# Altium footprint library ES_Pcb_x.PcbLib: 354 footprints (part 22 of 23)
Each footprint in its own frame and in the unit in brackets; x right, y up, seen from the top. Pads: shape width x height; smd on the part's side, far side on the other; paste and mask are expansions set on the pad; w line width, h text height; cw(c..) or ccw(c..) is an arc to the next point about the centre after c.
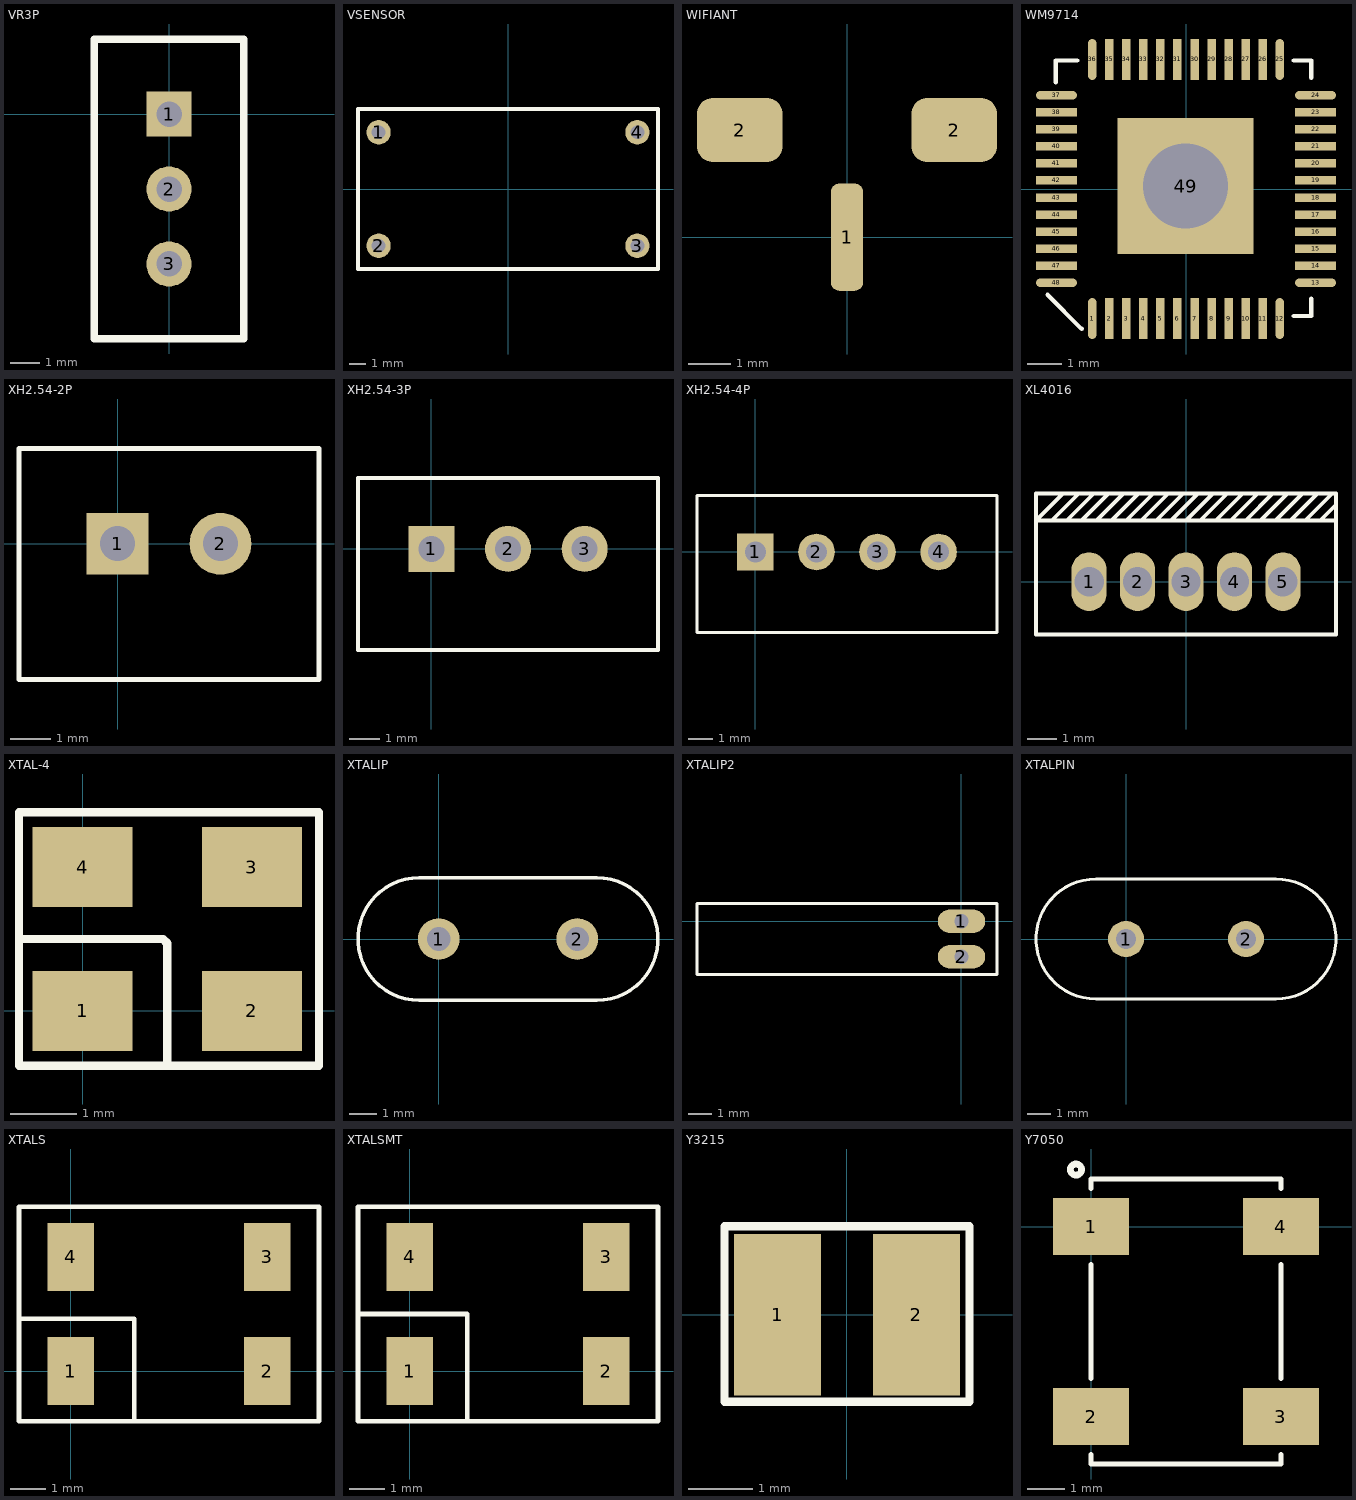
[diagram p21: the footprints below, top view; thin cyan lines are the x and y axes]

## VR3P [mil]
pads (3):
  rect 60x60 hole 34: 1(0,0)
  round 60 hole 34: 2(0,-100) 3(0,-200)
Top Overlay:
  lines w10: -100,-300 100,-300 100,100 -100,100 -100,-300

## VSENSOR [mil]
pads (4):
  round 60 hole 34: 1(-319.29,139.96) 2(-319.29,-139.96) 3(319.29,-139.96) 4(319.29,139.96)
Top Overlay:
  lines w10: -370.08,-196.85 370.08,-196.85 370.08,196.85 -370.08,196.85 -370.08,-196.85

## WIFIANT [mil]
pads (3):
  rrect50% 30x100 smd: 1(0,0)
  rrect50% 80x60 smd: 2(-100,100) 2(100,100)

## WM9714 [mm]
pads (49):
  oval 0.25x1.2 smd: 1(-2.75,-3.8) 12(2.75,-3.8) 25(2.75,3.8) 36(-2.75,3.8)
  rect 0.25x1.2 smd: 2(-2.25,-3.8) 3(-1.75,-3.8) 4(-1.25,-3.8) 5(-0.75,-3.8) 6(-0.25,-3.8) 7(0.25,-3.8) 8(0.75,-3.8) 9(1.25,-3.8) 10(1.75,-3.8) 11(2.25,-3.8) 26(2.25,3.8) 27(1.75,3.8) 28(1.25,3.8) 29(0.75,3.8) 30(0.25,3.8) 31(-0.25,3.8) 32(-0.75,3.8) 33(-1.25,3.8) 34(-1.75,3.8) 35(-2.25,3.8)
  oval 1.2x0.25 smd: 13(3.8,-2.75) 24(3.8,2.75) 37(-3.8,2.75) 48(-3.8,-2.75)
  rect 1.2x0.25 smd: 14(3.8,-2.25) 15(3.8,-1.75) 16(3.8,-1.25) 17(3.8,-0.75) 18(3.8,-0.25) 19(3.8,0.25) 20(3.8,0.75) 21(3.8,1.25) 22(3.8,1.75) 23(3.8,2.25) 38(-3.8,2.25) 39(-3.8,1.75) 40(-3.8,1.25) 41(-3.8,0.75) 42(-3.8,0.25) 43(-3.8,-0.25) 44(-3.8,-0.75) 45(-3.8,-1.25) 46(-3.8,-1.75) 47(-3.8,-2.25)
  rect 4x4 hole 2.5: 49(-0.013,0.087)
Top Overlay:
  lines w0.127: -4.061,-3.104 -3.061,-4.104 ; -3.823,3.135 -3.823,3.77 -3.188,3.77 ; 3.162,-3.723 3.67,-3.723 3.67,-3.215 ; 3.162,3.77 3.67,3.77 3.67,3.262

## XH2.54-2P [mil]
pads (2):
  rect 60x60 hole 34: 1(0,0)
  round 60 hole 34: 2(100,0)
Top Overlay:
  lines w5: -95.67,-131.89 -95.67,92.52 195.67,92.52 195.67,-131.89 -95.67,-131.89

## XH2.54-3P [mil]
pads (3):
  rect 60x60 hole 34: 1(0,0)
  round 60 hole 34: 2(100,0) 3(200,0)
Top Overlay:
  lines w5: -95.67,-131.89 295.67,-131.89 295.67,92.52 -95.67,92.52 -95.67,-131.89

## XH2.54-4P [mil]
pads (4):
  rect 60x60 hole 34: 1(0,0)
  round 60 hole 34: 2(100,0) 3(200,0) 4(300,0)
Top Overlay:
  lines w5: -95.67,-131.89 395.67,-131.89 395.67,92.52 -95.67,92.52 -95.67,-131.89

## XL4016 [mm]
pads (5):
  oval 1.2x2 hole 1: 1(-3.3,0) 2(-1.65,0) 3(0,0) 4(1.65,0) 5(3.3,0)
Top Overlay:
  lines w0.127: -4.572,2.083 -3.653,2.997 ; -4.191,2.997 -5.11,2.083 5.11,2.083 ; -4.064,2.083 -3.145,2.997 ; -3.556,2.083 -2.637,2.997 ; -3.048,2.083 -2.129,2.997 ; -2.54,2.083 -1.621,2.997 ; -2.032,2.083 -1.113,2.997 ; -1.524,2.083 -0.605,2.997 ; -1.016,2.083 -0.097,2.997 ; -0.508,2.083 0.411,2.997 ; 0,2.083 0.919,2.997 ; 0.483,2.083 1.402,2.997 ; 1.016,2.083 1.935,2.997 ; 1.524,2.083 2.443,2.997 ; 2.032,2.083 2.951,2.997 ; 2.54,2.083 3.459,2.997 ; 3.048,2.083 3.967,2.997 ; 3.556,2.083 4.475,2.997 ; 4.064,2.083 4.983,2.997 ; 4.572,2.083 5.109,2.617 ; -5.11,-1.8 5.11,-1.8 5.11,3 -5.11,3 -5.11,-1.8

## XTAL-4 [mm]
pads (4):
  rect 1.5x1.2 smd: 1(0,0) 2(2.54,0) 3(2.54,2.159) 4(0,2.159)
Top Overlay:
  lines w0.127: -0.954,1.079 1.207,1.079 1.27,1.016 1.27,-0.762 ; -0.954,-0.821 -0.954,2.979 3.546,2.979 3.546,-0.821 -0.954,-0.821

## XTALIP [mil]
pads (2):
  round 60 hole 34: 1(0,0) 2(200,0)
Top Overlay:
  lines w5: -27.95,-88.58 cw(c-27.95,0) -27.95,88.58 227.95,88.58 cw(c227.95,0) 227.95,-88.58 -27.95,-88.58

## XTALIP2 [mm]
pads (2):
  oval 2x1 hole 0.6: 1(0,0) 2(0,-1.5)
Top Overlay:
  lines w0.127: 0.508,-2.25 0.992,-2.25 ; -11.176,-2.25 -11.176,0.75 1.5,0.75 1.5,-2.25 -11.176,-2.25

## XTALPIN [mil]
pads (2):
  round 60 hole 34: 1(0,0) 2(200,0)
Top Overlay:
  lines w5: -50,-100 cw(c-50,0) -50,100 250,100 cw(c250,0) 250,-100 -50,-100

## XTALS [mm]
pads (4):
  rect 1.3x1.9 smd: 1(0,0) 2(5.5,0) 3(5.5,3.2) 4(0,3.2)
Top Overlay:
  lines w0.127: -1.45,1.473 1.778,1.473 1.778,-1.4 ; -1.45,-1.4 -1.45,4.6 6.95,4.6 6.95,-1.4 -1.45,-1.4

## XTALSMT [mm]
pads (4):
  rect 1.3x1.9 smd: 1(0,0) 2(5.5,0) 3(5.5,3.2) 4(0,3.2)
Top Overlay:
  lines w0.127: -1.441,1.6 1.607,1.6 1.607,-1.4 ; -1.45,-1.4 6.95,-1.4 6.95,4.6 -1.45,4.6 -1.45,-1.4

## Y3215 [mm]
pads (2):
  rect 1.35x2.5 smd: 1(-1.075,0) 2(1.075,0)
Top Overlay:
  lines w0.127: -1.9,-1.346 -1.9,1.372 1.9,1.372 1.9,-1.346 -1.9,-1.346

## Y7050 [mil]
pads (4):
  rect 80x60 smd: 1(0,0) 2(0,-200) 3(200,-200) 4(200,0)
Top Overlay:
  circle w7: c-15.86,60 r5.86
  lines w5: 0,-240 0,-250 200,-250 200,-240 ; 0,-160 0,-40 ; 0,40 0,50 200,50 200,40 ; 200,-160 200,-40